# EAGLE library part MC-8B-ATT25-IL8 (library BME_Components)
Low Power tinyAVR� 8-Bit Microcontroller, 8K Flash Memory, 10MHz, Industrial Temperature, 8-Lead PDIP, Pb-Free
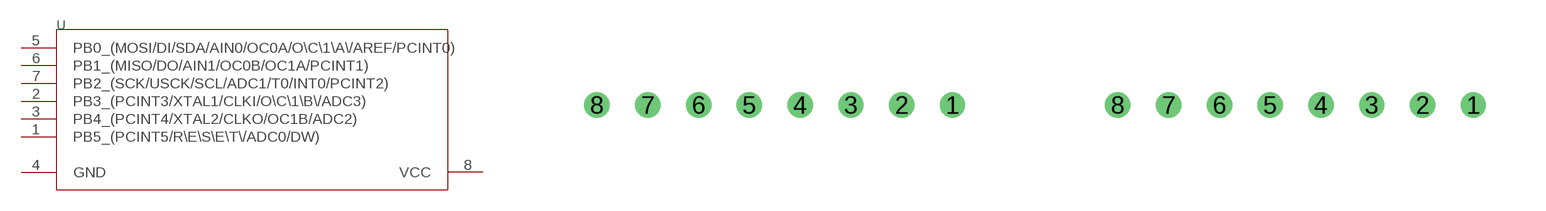
[diagram p1: symbol with the pads of MC-8B-ATT25-IL8_8S2_M; footprints MC-8B-ATT25-IL8_8S2_M, MC-8B-ATT25-IL8_PDIP-8]

Designator prefix U

## MC-8B-ATT25-IL8MC-8B-ATT25-IL8_MC-8B-ATT25-IL8_8S2_M (CODE_JEDEC: MS-001-BA; DATASHEETVERSION: DOC2586I, May-2008; PACKAGEDESCRIPTION: 8-Lead, 0.300" Wide Body, Plastic Dual In-Line Package (PDIP); PACKAGEREFERENCE: 8P3; PACKAGEVERSION: revB, Jan-2002)  [MC-8B-ATT25-IL8_8S2_M]
1  PB5_(PCINT5/R\E\S\E\T\/ADC0/DW)
2  PB3_(PCINT3/XTAL1/CLKI/O\C\1\B\/ADC3)
3  PB4_(PCINT4/XTAL2/CLKO/OC1B/ADC2)
4  GND  pwr
5  PB0_(MOSI/DI/SDA/AIN0/OC0A/O\C\1\A\/AREF/PCINT0)
6  PB1_(MISO/DO/AIN1/OC0B/OC1A/PCINT1)
7  PB2_(SCK/USCK/SCL/ADC1/T0/INT0/PCINT2)
8  VCC  pwr

## MC-8B-ATT25-IL8MC-8B-ATT25-IL8_MC-8B-ATT25-IL8_PDIP-8 (CODE_JEDEC: MS-001-BA; DATASHEETVERSION: DOC2586I, May-2008; PACKAGEDESCRIPTION: 8-Lead, 0.300" Wide Body, Plastic Dual In-Line Package (PDIP); PACKAGEREFERENCE: 8P3; PACKAGEVERSION: revB, Jan-2002)  [MC-8B-ATT25-IL8_PDIP-8]
Pads as for MC-8B-ATT25-IL8_8S2_M

## Footprint MC-8B-ATT25-IL8_8S2_M (pad centres in mm)
drill 0.127 pad 0.254 round: 1 8.89,0; 2 7.62,0; 3 6.35,0; 4 5.08,0; 5 3.81,0; 6 2.54,0; 7 1.27,0; 8 0,0

## Footprint MC-8B-ATT25-IL8_PDIP-8 (pad centres in mm)
drill 0.127 pad 0.254 round: 1 8.89,0; 2 7.62,0; 3 6.35,0; 4 5.08,0; 5 3.81,0; 6 2.54,0; 7 1.27,0; 8 0,0